# EAGLE library part MICROUSB (library BitFit)
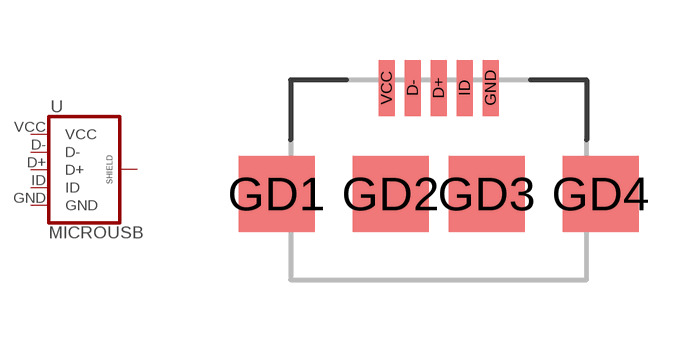
[diagram p3: symbol with the pads of MICROUSB; footprint MICROUSB]

Designator prefix -

## MICROUSB  [MICROUSB]
D+  D+
D-  D-
GD1  SHIELD
GD2  SHIELD
GD3  SHIELD
GD4  SHIELD
GND  GND
ID  ID
VCC  VCC

## Footprint MICROUSB (pad centres in mm)
smd 0.4 x 1.4: D+ 0,4.1; D- -0.65,4.1; GND 1.3,4.1; ID 0.65,4.1; VCC -1.3,4.1
smd 1.9 x 1.9: GD1 -4.05,1.45; GD2 -1.2,1.45; GD3 1.2,1.45; GD4 4.05,1.45